# Altium footprint library SWITCHCRAFT_RAPC732X.PcbLib: 1 footprints
Each footprint in its own frame and in the unit in brackets; x right, y up, seen from the top. Pads: shape width x height; smd on the part's side, far side on the other; paste and mask are expansions set on the pad; w line width, h text height; cw(c..) or ccw(c..) is an arc to the next point about the centre after c.
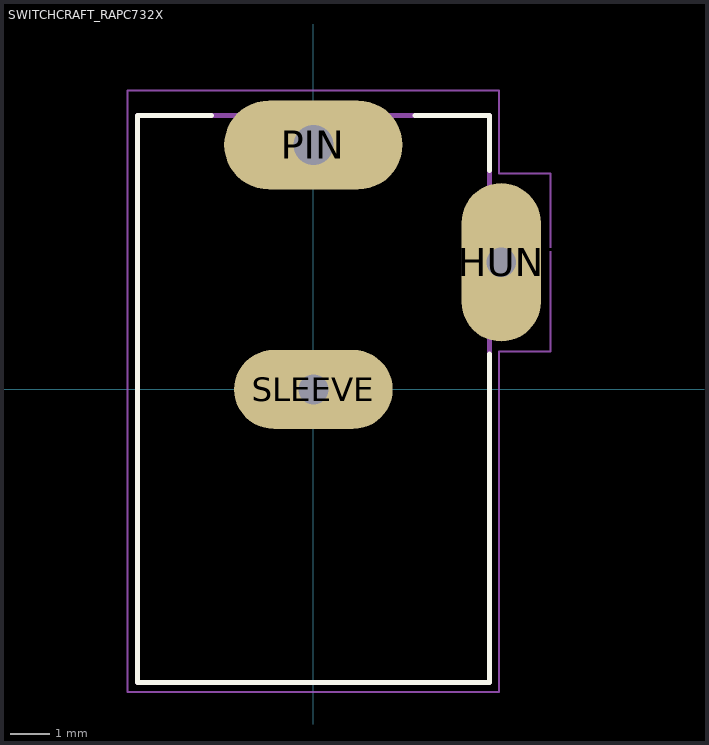
[diagram p0: the footprint, top view; thin cyan lines are the x and y axes]

## SWITCHCRAFT_RAPC732X [mm]
pads (3):
  oval 4.56x2.28 hole 1.02 square: PIN(0,6.25)
  oval 2.025x4.05 hole 0.76 square: SHUNT(4.8,3.25)
  oval 4.05x2.025 hole 0.76 square: SLEEVE(0,0)
Top Overlay:
  lines w0.127: -2.6,7.01 -4.5,7.01 -4.5,-7.49 4.5,-7.49 4.5,0.905 ; 2.6,7.01 4.5,7.01 4.5,5.595
Mechanical 13:
  lines w0.127: -4.5,-7.49 4.5,-7.49 4.5,7.01 -4.5,7.01 -4.5,-7.49
Mechanical 15:
  lines w0.05: -4.75,-7.74 4.75,-7.74 4.75,0.975 6.062,0.975 6.062,5.525 4.75,5.525 4.75,7.64 -4.75,7.64 -4.75,-7.74
3D body "RAPC732X--3DModel-STEP-1.STEP": height 10.73, standoff -3.69, extent -4.597,-7.396 4.953,7.142